# Altium schematic symbol library Regulator.SchLib: 2 symbols
Pins are listed as number, name and electrical type; pins without a type are passive.

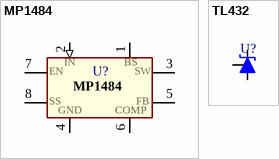
[diagram p0: symbols MP1484 to TL432]

## MP1484
designator U?  (value not drawn)
• 3A Continuous Output Current / • Wide 4.75V to 18V Operating Input Range / • Integrated 85mΩ Power MOSFET Switches / • Output Adjustable from 0.925V to 20V / • Up to 95% Efficiency / • Programmable Soft-Start / • Stable with Low ESR Ceramic Output Capacitors / • Fixed 340KHz Frequency / • Cycle-by-Cycle Over Current Protection / • Input Under Voltage Lockout / • Thermally Enhanced 8-Pin SOIC Package
footprint SOIC8N (SOIC, 8-Leads, Body 4.9x3.9mm, Pitch 1.27mm, IPC Medium Density)
pins: 1 BS, 2 IN (in), 3 SW, 4 GND (power), 5 FB, 6 IN, 7 EN, 8 SS
text: COMP

## TL432
designator U?  (value not drawn)
footprint SOT23-3M (SOT23, 3-Leads, Body 2.9x1.3mm, Pitch 0.95mm, Lead Span 2.5mm, IPC Low Density); pin to pad A>3 C>3 R>1
pins: A ANODE, C CATHODE, R REF